# EAGLE library part _OLD_LI-1 (library Cubesat)
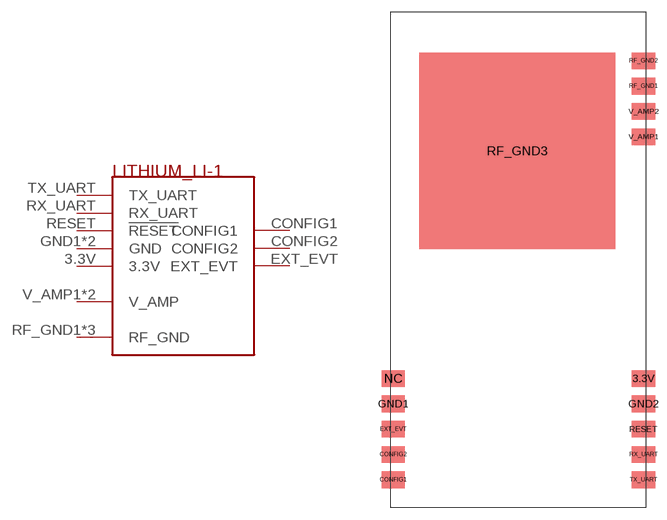
[diagram p2: symbol with the pads of _OLD_LI-1; footprint _OLD_LI-1]

Designator prefix -

## _OLD_LI-1  [_OLD_LI-1]
3.3V  3.3V
CONFIG1  CONFIG1
CONFIG2  CONFIG2
EXT_EVT  EXT_EVT
GND1  GND
GND2  GND
RESET  !RESET
RF_GND1  RF_GND
RF_GND2  RF_GND
RF_GND3  RF_GND
RX_UART  RX_UART
TX_UART  TX_UART
V_AMP1  V_AMP
V_AMP2  V_AMP

## Footprint _OLD_LI-1 (pad centres in mm)
This is the footprint for the Astrodev Lithium Li-1 radio
smd 3 x 2.15: 3.3V 32.6,16.71; CONFIG1 0.3,3.63; CONFIG2 0.3,6.9; EXT_EVT 0.3,10.17; GND1 0.3,13.44; GND2 32.6,13.44; NC 0.3,16.71; RESET 32.6,10.17; RF_GND1 32.6,54.48; RF_GND2 32.6,57.75; RX_UART 32.6,6.9; TX_UART 32.6,3.63; V_AMP1 32.6,47.94; V_AMP2 32.6,51.21
smd 25.35 x 25.35: RF_GND3 16.3,46.1